# Altium schematic symbol library SN74HCS08DR.SchLib: 1 symbol
Pins are listed as number, name and electrical type; pins without a type are passive.

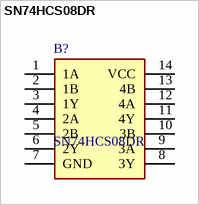
[diagram p0: symbol SN74HCS08DR]

## SN74HCS08DR
designator B?
Logic Gates 4-ch, 2-input, 2-V to 6-V low power AND gates with Schmitt-Trigger inputs 14-SOIC -40 to 125; Manufacturer_Name: Texas Instruments; Geometry.Height: 1.75mm; Manufacturer_Part_Number: SN74HCS08DR; Mouser Part Number: 595-SN74HCS08DR; Mouser Price/Stock: https://www.mouser.co.uk/ProductDetail/Texas-Instruments/SN74HCS08DR?qs=7MVldsJ5UaxBpqBusi11%2Fg%3D%3D; Arrow Part Number: SN74HCS08DR; Arrow Price/Stock: https://www.arrow.com/en/products/sn74hcs08dr/texas-instruments?utm_currency=USD&region=nac; Datasheet Link: https://www.ti.com/lit/ds/symlink/sn74hcs08.pdf?ts=1620753268442&ref_url=https%253A%252F%252Fwww.ti.com%252Fproduct%252FSN74HCS08
footprint SOIC127P600X175-14N
pins: 1 1A, 2 1B, 3 1Y, 4 2A, 5 2B, 6 2Y, 7 GND, 8 3Y, 9 3A, 10 3B, 11 4Y, 12 4A, 13 4B, 14 VCC